# Altium schematic symbol library femtoino.SchLib: 40 symbols
Pins are listed as number, name and electrical type; pins without a type are passive.

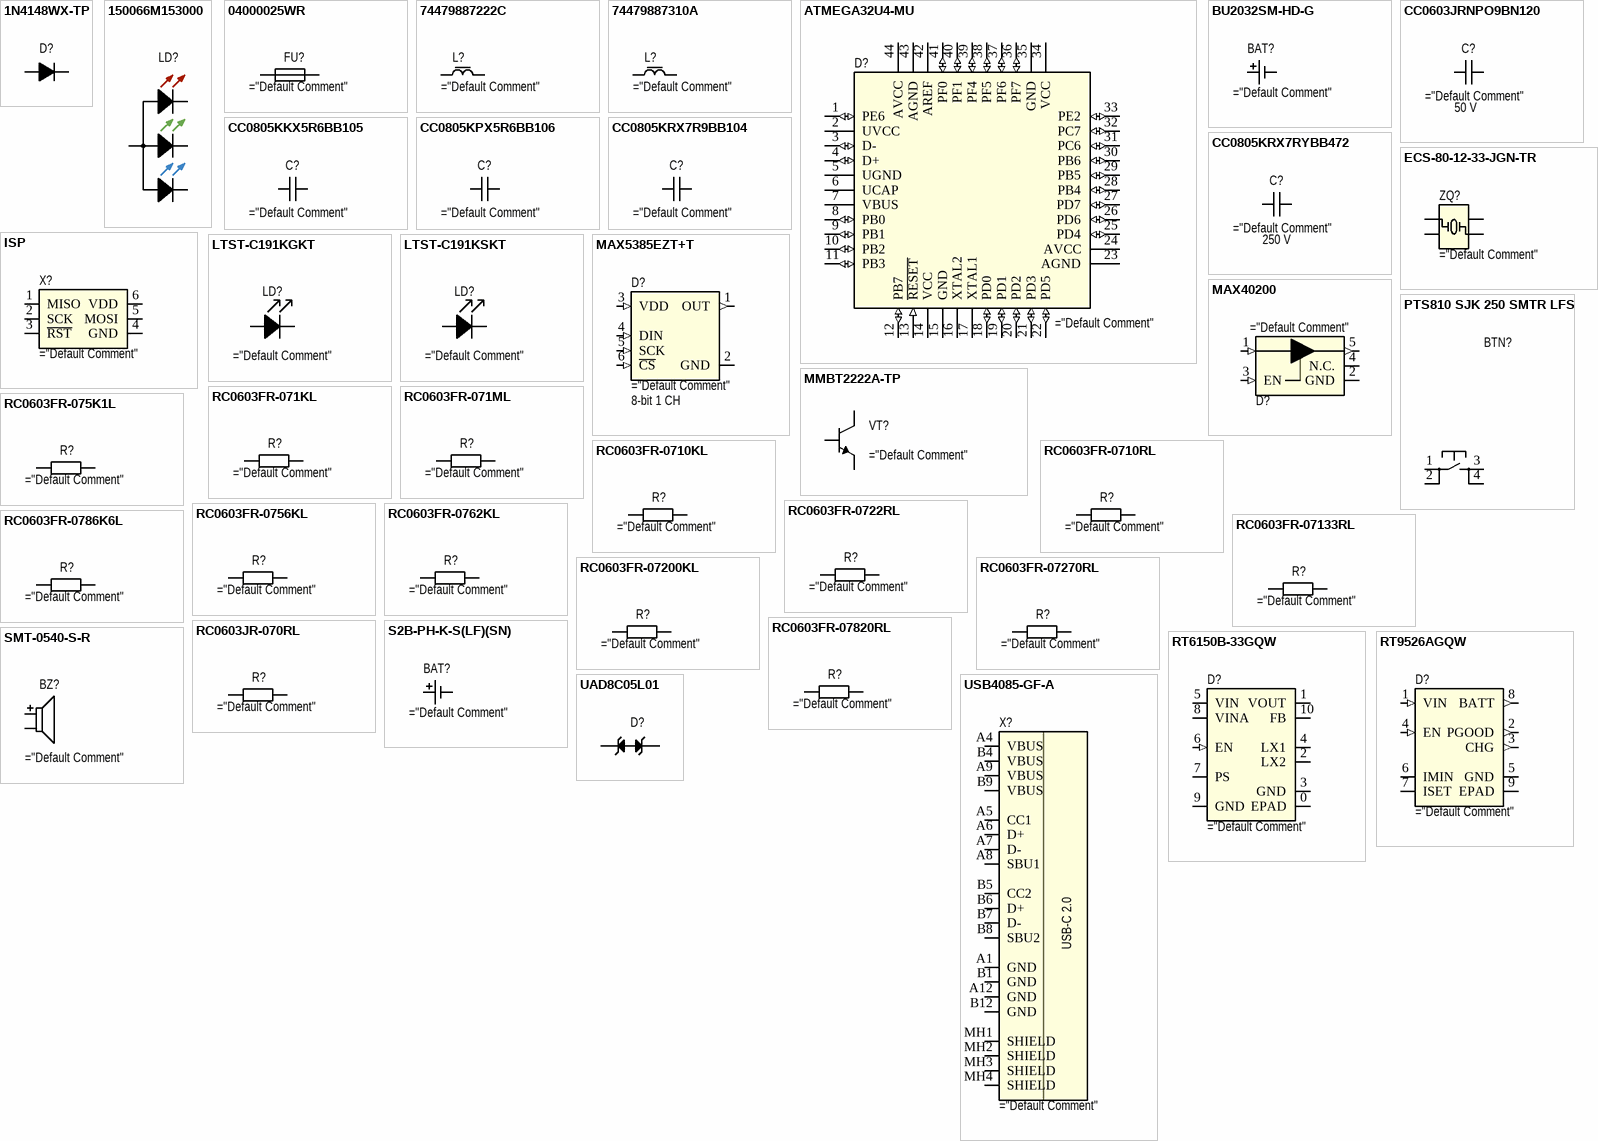
[diagram p0: symbols 1N4148WX-TP to USB4085-GF-A]

## 1N4148WX-TP
designator D?
DIODE GEN PURP 75V 150MA SOD323; Manufacturer: Micro Commercial Co; Default Comment: 1N4148WX-TP; Power Dissipation: * W; Rated Current: 150 A; Tolerance: * %; Other: Diode 75 V 150mA Surface Mount SOD-323; Operating Temperature: -55 °C to +150 °C; Type: diode; HelpURL: https://www.digikey.com/en/products/detail/micro-commercial-co/1N4148WX-TP/717197; Rated Voltage: 75 V; Rated Power: * W; Value: *; Summary: ="Type"+" "+"Part Number"+" "+"Manufacturer"+" "+"Value"+" "+"Tolerance"+" "+"Operating Temperature"+" "+"Case"+" "+"Power Dissipation"+" "+"Rated Current"+" "+"Rated Power"+" "+"Rated Voltage"+" "+"Other"; Assembly: *; Case: SOD-323; Part Number: 1N4148WX-TP
pins: A, C

## 150066M153000
designator LD?
LED RGB DIFFUSED SMD; Manufacturer: Würth Elektronik; Default Comment: 150066M153000; Power Dissipation: * W; Tolerance: * %; Other: Red, Green, Blue (RGB) 624nm Red, 525nm Green, 470nm Blue LED Indication - Discrete 2V Red, 3.3V Green, 3.3V Blue 0606 (1616 Metric); Rated Voltage: 2V Red; 3.3V Green; 3.3V Blue; Rated Current: 20 mA; Value: Red; Green; Blue; Operating Temperature: -40 °C to +85 °C; Type: led; HelpURL: https://www.digikey.com/en/products/detail/w%C3%BCrth-elektronik/150066M153000/7315709; Rated Power: * W; Summary: ="Type"+" "+"Part Number"+" "+"Manufacturer"+" "+"Value"+" "+"Tolerance"+" "+"Operating Temperature"+" "+"Case"+" "+"Power Dissipation"+" "+"Rated Current"+" "+"Rated Power"+" "+"Rated Voltage"+" "+"Other"; Assembly: *; Case: 0606; Part Number: 150066M153000
pins: BC "green cathode", CA "Common anode", GC "green cathode", RC "red cathode"

## 04000025WR
designator FU?
FUSE 500MA 5V FAST 0603 SMD; Manufacturer: Littelfuse Inc.; Part Number: 04000025WR; Power Dissipation: * W; Tolerance: * %; Other: 500 mA AC 5 V DC Fuse Board Mount (Cartridge Style Excluded) Surface Mount 0603 (1608 Metric); Operating Temperature: -55 °C to +150 °C; Type: fuse; HelpURL: https://www.digikey.com/en/products/detail/littelfuse-inc/04000025WR/10271162?s=N4IgjCBcoGwJxVAYygMwIYBsDOBTANCAPZQDaIALAAxwDMdIAuoQA4AuUIAymwE4CWAOwDmIAL6EATFQAcMxCBSQMOAsTIgArFSoACALYBBJqw6QQAVUH82AeVQBZXOmwBXXrnFSwFCgqUqeIQkkOSaugBqJiDsnFY29k4u7p4SIAC0kv5QfK5qIWFMYmlZoSCornhFQA; Default Comment: 500 mA; Rated Voltage: 5 V; Rated Current: 500 mA; Rated Power: * W; Value: *; Summary: ="Type"+" "+"Part Number"+" "+"Manufacturer"+" "+"Value"+" "+"Tolerance"+" "+"Operating Temperature"+" "+"Case"+" "+"Power Dissipation"+" "+"Rated Current"+" "+"Rated Power"+" "+"Rated Voltage"+" "+"Other"; Assembly: *; Case: 0603
pins: 1, 2

## 74479887222C
designator L?
FIXED IND 2.2UH 1.6A 110MOHM SMD; Manufacturer: Würth Elektronik; Part Number: 74479887222C; Type: inductor; Power Dissipation: * W; Rated Voltage: * V; Tolerance: * %; Other: 2.2 µH Shielded Multilayer Inductor 1.6 A 110mOhm 1008 (2520 Metric); Operating Temperature: -40 °C to +125 °C; HelpURL: https://www.digikey.com/en/products/detail/w%C3%BCrth-elektronik/74479887222C/5870496; Default Comment: 2.2 uH; Rated Current: 1.6 A; Rated Power: * W; Value: 2.2 uH; Summary: ="Type"+" "+"Part Number"+" "+"Manufacturer"+" "+"Value"+" "+"Tolerance"+" "+"Operating Temperature"+" "+"Case"+" "+"Power Dissipation"+" "+"Rated Current"+" "+"Rated Power"+" "+"Rated Voltage"+" "+"Other"; Assembly: *; Case: 1008
pins: 1, 2

## 74479887310A
designator L?
FIXED IND 10UH 850MA 300MOHM SMD; Manufacturer: Würth Elektronik; Part Number: 74479887310A; Type: inductor; Power Dissipation: * W; Rated Voltage: * V; Tolerance: * %; Other: 10 µH Shielded Multilayer Inductor 850 mA 300mOhm 1008 (2520 Metric); Operating Temperature: -40 °C to +125 °C; HelpURL: https://www.digikey.com/en/products/detail/w%C3%BCrth-elektronik/74479887310A/4120129; Default Comment: 10 uH; Rated Current: 850 mA; Rated Power: * W; Value: 10 uH; Summary: ="Type"+" "+"Part Number"+" "+"Manufacturer"+" "+"Value"+" "+"Tolerance"+" "+"Operating Temperature"+" "+"Case"+" "+"Power Dissipation"+" "+"Rated Current"+" "+"Rated Power"+" "+"Rated Voltage"+" "+"Other"; Assembly: *; Case: 1008
pins: 1, 2

## ATMEGA32U4-MU
designator D?
IC MCU 8BIT 32KB FLASH 44VQFN; Manufacturer: Microchip Technology; Default Comment: ATMEGA32U4-MU; Power Dissipation: * W; Rated Voltage: 2.7V ~ 5.5 V; Rated Current: * A; Tolerance: * %; Other: AVR AVR® ATmega Microcontroller IC 8-Bit 16MHz 32KB (16K x 16) FLASH 44-VQFN (7x7); Operating Temperature: -40 °C to +85 °C; Type: ic; HelpURL: https://www.digikey.com/en/products/detail/microchip-technology/ATMEGA32U4-MU/1914603; Rated Power: * W; Value: *; Summary: ="Type"+" "+"Part Number"+" "+"Manufacturer"+" "+"Value"+" "+"Tolerance"+" "+"Operating Temperature"+" "+"Case"+" "+"Power Dissipation"+" "+"Rated Current"+" "+"Rated Power"+" "+"Rated Voltage"+" "+"Other"; Assembly: *; Case: 44-VQFN (7x7); Part Number: ATMEGA32U4-MU
pins: 1 PE6 (io), 2 UVCC, 3 D- (io), 4 D+ (io), 5 UGND, 6 UCAP, 7 VBUS, 8 PB0 (io), 9 PB1 (io), 10 PB2 (io), 11 PB3 (io), 12 PB7 (io), 13 ~{RESET} (in), 14 VCC, 15 GND, 16 XTAL2, 17 XTAL1, 18 PD0 (io), 19 PD1 (io), 20 PD2 (io), 21 PD3 (io), 22 PD5 (io), 23 AGND, 24 AVCC, 25 PD4 (io), 26 PD6 (io), 27 PD7 (io), 28 PB4 (io), 29 PB5 (io), 30 PB6 (io), 31 PC6 (io), 32 PC7 (io), 33 PE2 (io), 34 VCC, 35 GND, 36 PF7 (io), 37 PF6 (io), 38 PF5 (io), 39 PF4 (io), 40 PF1 (io), 41 PF0 (io), 42 AREF, 43 AGND, 44 AVCC

## BU2032SM-HD-G
designator BAT?
BATT HOLDER COIN 20MM 1 CELL SMD; Manufacturer: MPD (Memory Protection Devices); Part Number: BU2032SM-HD-G; Default Comment: CR2032; Power Dissipation: * W; Rated Voltage: * V; Rated Current: * A; Tolerance: * %; Other: Battery Holder (Open) Coin, 20.0mm 1 Cell SMD (SMT) Tab; Operating Temperature: -40 °C to +280 °C; Type: connector; HelpURL: https://www.digikey.com/en/products/detail/mpd-memory-protection-devices/BU2032SM-HD-G/755446; Rated Power: * W; Value: *; Summary: ="Type"+" "+"Part Number"+" "+"Manufacturer"+" "+"Value"+" "+"Tolerance"+" "+"Operating Temperature"+" "+"Case"+" "+"Power Dissipation"+" "+"Rated Current"+" "+"Rated Power"+" "+"Rated Voltage"+" "+"Other"; Assembly: *; Case: CR2032
pins: NEG, POS

## CC0603JRNPO9BN120
designator C?  Rated Voltage: 50 V
CAP CER 12PF 50V C0G/NPO 0603; Manufacturer: YAGEO; Part Number: CC0603JRNPO9BN120; Type: capacitor; Power Dissipation: * W; Rated Current: * A; Tolerance: 5 %; Other: 12 pF ±5% 50V Ceramic Capacitor C0G, NP0 0603 (1608 Metric); Operating Temperature: -55 °C to +125 °C; HelpURL: https://www.digikey.com/en/products/detail/yageo/CC0603JRNPO9BN120/302793; Default Comment: 12 pF; Rated Power: * W; Value: 12 pF; Summary: ="Type"+" "+"Part Number"+" "+"Manufacturer"+" "+"Value"+" "+"Tolerance"+" "+"Operating Temperature"+" "+"Case"+" "+"Power Dissipation"+" "+"Rated Current"+" "+"Rated Power"+" "+"Rated Voltage"+" "+"Other"; Assembly: *; Case: 0603
pins: 1, 2

## CC0805KKX5R6BB105
designator C?
CAP CER 1UF 10V X5R 0805; Manufacturer: YAGEO; Part Number: CC0805KKX5R6BB105; Type: capacitor; Power Dissipation: * W; Rated Current: * A; Tolerance: 10 %; Other: 1 µF ±10% 10V Ceramic Capacitor X5R 0805 (2012 Metric); Operating Temperature: -55 °C to +85 °C; HelpURL: https://www.digikey.com/en/products/detail/yageo/CC0805KKX5R6BB105/2345239; Default Comment: 1 uF; Rated Voltage: 10 V; Rated Power: * W; Value: 1 uF; Summary: ="Type"+" "+"Part Number"+" "+"Manufacturer"+" "+"Value"+" "+"Tolerance"+" "+"Operating Temperature"+" "+"Case"+" "+"Power Dissipation"+" "+"Rated Current"+" "+"Rated Power"+" "+"Rated Voltage"+" "+"Other"; Assembly: *; Case: 0805
pins: 1, 2

## CC0805KPX5R6BB106
designator C?
CAP CER 10UF 10V X5R 0805; Manufacturer: YAGEO; Part Number: CC0805KPX5R6BB106; Type: capacitor; Power Dissipation: * W; Rated Current: * A; Tolerance: 10 %; Other: 10 µF ±10% 10V Ceramic Capacitor X5R 0805 (2012 Metric); Operating Temperature: -55 °C to +85 °C; HelpURL: https://www.digikey.com/en/products/detail/yageo/CC0805KPX5R6BB106/11611309; Default Comment: 10 uF; Rated Voltage: 10 V; Rated Power: * W; Value: 10 uF; Summary: ="Type"+" "+"Part Number"+" "+"Manufacturer"+" "+"Value"+" "+"Tolerance"+" "+"Operating Temperature"+" "+"Case"+" "+"Power Dissipation"+" "+"Rated Current"+" "+"Rated Power"+" "+"Rated Voltage"+" "+"Other"; Assembly: *; Case: 0805
pins: 1, 2

## CC0805KRX7R9BB104
designator C?
CAP CER 0.1UF 50V X7R 0805; Manufacturer: YAGEO; Part Number: CC0805KRX7R9BB104; Type: capacitor; Power Dissipation: * W; Rated Current: * A; Tolerance: 10 %; Other: 0.1 µF ±10% 50V Ceramic Capacitor X7R 0805 (2012 Metric); Operating Temperature: -55 °C to +125 °C; HelpURL: https://www.digikey.com/en/products/detail/yageo/CC0805KRX7R9BB104/302874; Default Comment: 0.1 uF; Rated Voltage: 50 V; Rated Power: * W; Value: 0.1 uF; Summary: ="Type"+" "+"Part Number"+" "+"Manufacturer"+" "+"Value"+" "+"Tolerance"+" "+"Operating Temperature"+" "+"Case"+" "+"Power Dissipation"+" "+"Rated Current"+" "+"Rated Power"+" "+"Rated Voltage"+" "+"Other"; Assembly: *; Case: 0805
pins: 1, 2

## CC0805KRX7RYBB472
designator C?  Rated Voltage: 250 V
CAP CER 4700PF 250V X7R 0805; Manufacturer: YAGEO; Part Number: CC0805KRX7RYBB472; Type: capacitor; Power Dissipation: * W; Rated Current: * A; Tolerance: 10 %; Other: 4700 pF ±10% 250V Ceramic Capacitor X7R 0805 (2012 Metric); Operating Temperature: -55 °C to +125 °C; HelpURL: https://www.digikey.com/en/products/detail/yageo/CC0805KRX7RYBB472/5884263; Default Comment: 4700 pF; Rated Power: * W; Value: 4700 pF; Summary: ="Type"+" "+"Part Number"+" "+"Manufacturer"+" "+"Value"+" "+"Tolerance"+" "+"Operating Temperature"+" "+"Case"+" "+"Power Dissipation"+" "+"Rated Current"+" "+"Rated Power"+" "+"Rated Voltage"+" "+"Other"; Assembly: *; Case: 0805
pins: 1, 2

## ECS-80-12-33-JGN-TR
designator ZQ?
CRYSTAL 8.0000MHZ 12PF SMD; Manufacturer: ECS Inc.; Part Number: ECS-80-12-33-JGN-TR; Power Dissipation: * W; Rated Voltage: * V; Rated Current: * A; Tolerance: 20 ppm; Other: 8 MHz ±20ppm Crystal 12pF 400 Ohms 4-SMD, No Lead; Operating Temperature: -40 °C to +85 °C; Type: crystall; HelpURL: https://www.digikey.com/en/products/detail/ecs-inc/ECS-80-12-33-JGN-TR/10478754; Default Comment: 8.0000 MHz; Rated Power: * W; Value: 8.0000 MHz; Summary: ="Type"+" "+"Part Number"+" "+"Manufacturer"+" "+"Value"+" "+"Tolerance"+" "+"Operating Temperature"+" "+"Case"+" "+"Power Dissipation"+" "+"Rated Current"+" "+"Rated Power"+" "+"Rated Voltage"+" "+"Other"; Assembly: *; Case: 3.20mm x 2.50mm
pins: 1, 2, 3, 4

## ISP
designator X?  (no BOM)
In system programming interface.; Default Comment: ISP; Power Dissipation: * W; Rated Voltage: * V; Rated Current: * A; Tolerance: * %; Value: ISP; Operating Temperature: *; Type: connector; HelpURL: *; Rated Power: * W; Other: *; Summary: ="Type"+" "+"Part Number"+" "+"Manufacturer"+" "+"Value"+" "+"Tolerance"+" "+"Operating Temperature"+" "+"Case"+" "+"Power Dissipation"+" "+"Rated Current"+" "+"Rated Power"+" "+"Rated Voltage"+" "+"Other"; Assembly: *; Case: *; Manufacturer: *; Part Number: *
pins: 1 MISO, 2 SCK, 3 ~{RST}, 4 GND, 5 MOSI, 6 VDD

## LTST-C191KGKT
designator LD?
LED GREEN CLEAR SMD; Manufacturer: Lite-On Inc.; Part Number: LTST-C191KGKT; Power Dissipation: * W; Tolerance: * %; Other: Green 571nm LED Indication - Discrete 2V 0603 (1608 Metric); Rated Voltage: 2 V; Rated Current: 20 mA; Operating Temperature: -55 °C to +85 °C; Type: led; HelpURL: https://www.digikey.com/en/products/detail/liteon/LTST-C191KGKT/386835; Default Comment: green; Rated Power: * W; Summary: ="Type"+" "+"Part Number"+" "+"Manufacturer"+" "+"Value"+" "+"Tolerance"+" "+"Operating Temperature"+" "+"Case"+" "+"Power Dissipation"+" "+"Rated Current"+" "+"Rated Power"+" "+"Rated Voltage"+" "+"Other"; Assembly: *; Case: 0603; Value: green
pins: A "anode (-)", C "cathode (+)"

## LTST-C191KSKT
designator LD?
LED YELLOW CLEAR SMD; Manufacturer: Lite-On Inc.; Part Number: LTST-C191KSKT; Power Dissipation: * W; Tolerance: * %; Other: Yellow 591nm LED Indication - Discrete 2.1V 0603 (1608 Metric); Rated Voltage: 2.1 V; Rated Current: 20 mA; Operating Temperature: -55 °C to +85 °C; Type: led; HelpURL: https://www.digikey.com/en/products/detail/liteon/LTST-C191KSKT/386839; Default Comment: yellow; Rated Power: * W; Summary: ="Type"+" "+"Part Number"+" "+"Manufacturer"+" "+"Value"+" "+"Tolerance"+" "+"Operating Temperature"+" "+"Case"+" "+"Power Dissipation"+" "+"Rated Current"+" "+"Rated Power"+" "+"Rated Voltage"+" "+"Other"; Assembly: *; Case: 0603; Value: yellow
pins: A "anode (-)", C "cathode (+)"

## MAX5385EZT+T
designator D?  value 8-bit 1 CH  (no BOM)
IC DAC 8BIT V-OUT TSOT23-6; Manufacturer: Analog Devices Inc./Maxim Integrated; Default Comment: MAX5385EZT+T; Power Dissipation: * W; Rated Voltage: 2.7 V ~ 5.5 V; Rated Current: * A; Tolerance: * %; Other: 8 Bit Digital to Analog Converter 1 TSOT-23-6; Operating Temperature: -40 °C to +125 °C; Type: ic; HelpURL: https://www.digikey.com/en/products/detail/analog-devices-inc-maxim-integrated/MAX5385EZT-T/1781900; Rated Power: * W; Summary: ="Type"+" "+"Part Number"+" "+"Manufacturer"+" "+"Value"+" "+"Tolerance"+" "+"Operating Temperature"+" "+"Case"+" "+"Power Dissipation"+" "+"Rated Current"+" "+"Rated Power"+" "+"Rated Voltage"+" "+"Other"; Assembly: *; Case: SOT-23-6; Part Number: MAX5385EZT+T
pins: 1 OUT (out), 2 GND, 3 VDD (in), 4 DIN (in), 5 SCK (in), 6 ~{CS} (in)

## MAX40200
designator D?
IC IDEAL DIODE; Manufacturer: Analog Devices Inc./Maxim Integrated; Default Comment: MAX40203AUK+T; Power Dissipation: * W; Rated Voltage: 1.2 V ~ 5.5 V; Rated Current: 1 A; Tolerance: * %; Other: OR Controller Source Selector Switch P-Channel 1:1 SOT-23-5; Operating Temperature: -40 °C to +125 °C; Type: diode; HelpURL: https://www.digikey.com/en/products/detail/analog-devices-inc-maxim-integrated/MAX40203AUK-T/10447227; Rated Power: * W; Value: *; Summary: ="Type"+" "+"Part Number"+" "+"Manufacturer"+" "+"Value"+" "+"Tolerance"+" "+"Operating Temperature"+" "+"Case"+" "+"Power Dissipation"+" "+"Rated Current"+" "+"Rated Power"+" "+"Rated Voltage"+" "+"Other"; Assembly: *; Case: SOT-23-5; Part Number: MAX40203AUK+T
pins: 1 VDD (in), 2 GND, 3 EN (in), 4 N.C., 5 OUT (out)

## MMBT2222A-TP
designator VT?
TRANS NPN 40V 0.6A SOT23; Manufacturer: Micro Commercial Co; Type: transistor; Default Comment: MMBT2222A-TP; Power Dissipation: 350 mW; Rated Voltage: * V; Rated Current: 600 mA; Tolerance: * %; Other: Bipolar (BJT) Transistor NPN 40 V 600 mA 300MHz 350 mW Surface Mount SOT-23; Operating Temperature: -55 °C to +150 °C; HelpURL: https://www.digikey.com/en/products/detail/micro-commercial-co/MMBT2222A-TP/717279; Rated Power: 350 mW; Value: npn; Summary: ="Type"+" "+"Part Number"+" "+"Manufacturer"+" "+"Value"+" "+"Tolerance"+" "+"Operating Temperature"+" "+"Case"+" "+"Power Dissipation"+" "+"Rated Current"+" "+"Rated Power"+" "+"Rated Voltage"+" "+"Other"; Assembly: *; Case: SOT-23; Part Number: MMBT2222A-TP
pins: B "base", C "collector", E "emmiter"

## PTS810 SJK 250 SMTR LFS
designator BTN?
SWITCH TACTILE SPST-NO 0.05A 16V; Manufacturer: C&K; Default Comment: PTS810 SJK 250 SMTR LFS; Power Dissipation: * W; Rated Voltage: * V; Rated Current: * A; Tolerance: * %; Other: Tactile Switch SPST-NO Top Actuated Surface Mount; Operating Temperature: -40 °C to +85 °C; Type: button; HelpURL: https://www.digikey.com/en/products/detail/c-k/PTS810-SJK-250-SMTR-LFS/4176611; Rated Power: * W; Value: *; Summary: ="Type"+" "+"Part Number"+" "+"Manufacturer"+" "+"Value"+" "+"Tolerance"+" "+"Operating Temperature"+" "+"Case"+" "+"Power Dissipation"+" "+"Rated Current"+" "+"Rated Power"+" "+"Rated Voltage"+" "+"Other"; Assembly: *; Case: 4.20mm x 3.20mm; Part Number: PTS810 SJK 250 SMTR LFS
pins: 1, 2, 3, 4

## RC0603FR-071KL
designator R?
RES 1K OHM 1% 1/10W 0603; Manufacturer: YAGEO; Part Number: RC0603FR-071KL; Rated Voltage: * V; Rated Current: * A; Other: 1 kOhms ±1% 0.1W, 1/10W Chip Resistor 0603 (1608 Metric) Moisture Resistant Thick Film; Operating Temperature: -55 °C to +155 °C; Type: resistor; HelpURL: https://www.digikey.com/en/products/detail/yageo/RC0603FR-071KL/726843; Default Comment: 1k; Power Dissipation: 1/10 W; Rated Power: 1/10 W; Tolerance: 1 %; Value: 1k; Summary: ="Type"+" "+"Part Number"+" "+"Manufacturer"+" "+"Value"+" "+"Tolerance"+" "+"Operating Temperature"+" "+"Case"+" "+"Power Dissipation"+" "+"Rated Current"+" "+"Rated Power"+" "+"Rated Voltage"+" "+"Other"; Assembly: *; Case: 0603
pins: 1, 2

## RC0603FR-071ML
designator R?
RES 1M OHM 1% 1/10W 0603; Manufacturer: YAGEO; Part Number: RC0603FR-071ML; Power Dissipation: 0.1 W; Rated Voltage: * V; Rated Current: * A; Other: 1 MOhms ±1% 0.1W, 1/10W Chip Resistor 0603 (1608 Metric) Moisture Resistant Thick Film; Operating Temperature: -55 °C to +155 °C; Type: resistor; HelpURL: https://www.digikey.com/en/products/detail/yageo/RC0603FR-071ML/726844; Default Comment: 1M; Rated Power: 0.1 W; Tolerance: 1 %; Value: 1M; Summary: ="Type"+" "+"Part Number"+" "+"Manufacturer"+" "+"Value"+" "+"Tolerance"+" "+"Operating Temperature"+" "+"Case"+" "+"Power Dissipation"+" "+"Rated Current"+" "+"Rated Power"+" "+"Rated Voltage"+" "+"Other"; Assembly: *; Case: 0603
pins: 1, 2

## RC0603FR-075K1L
designator R?
RES 5.1K OHM 1% 1/10W 0603; Manufacturer: YAGEO; Part Number: RC0603FR-075K1L; Default Comment: 5k1; Rated Voltage: * V; Rated Current: * A; Value: 5k1; Other: 5.1 kOhms ±1% 0.1W, 1/10W Chip Resistor 0603 (1608 Metric) Moisture Resistant Thick Film; Operating Temperature: -55 °C to +155 °C; Type: resistor; HelpURL: https://www.digikey.com/en/products/detail/yageo/RC0603FR-075K1L/727268; Power Dissipation: 1/10 W; Rated Power: 1/10 W; Tolerance: 1 %; Summary: ="Type"+" "+"Part Number"+" "+"Manufacturer"+" "+"Value"+" "+"Tolerance"+" "+"Operating Temperature"+" "+"Case"+" "+"Power Dissipation"+" "+"Rated Current"+" "+"Rated Power"+" "+"Rated Voltage"+" "+"Other"; Assembly: *; Case: 0603
pins: 1, 2

## RC0603FR-0710KL
designator R?
RES 10K OHM 1% 1/10W 0603; Manufacturer: YAGEO; Part Number: RC0603FR-0710KL; Power Dissipation: 0.1 W; Rated Voltage: * V; Rated Current: * A; Other: 10 kOhms ±1% 0.1W, 1/10W Chip Resistor 0603 (1608 Metric) Moisture Resistant Thick Film; Operating Temperature: -55 °C to +155 °C; Type: resistor; HelpURL: https://www.digikey.com/en/products/detail/yageo/RC0603FR-0710KL/726880; Default Comment: 10k; Rated Power: 0.1 W; Tolerance: 1 %; Value: 10k; Summary: ="Type"+" "+"Part Number"+" "+"Manufacturer"+" "+"Value"+" "+"Tolerance"+" "+"Operating Temperature"+" "+"Case"+" "+"Power Dissipation"+" "+"Rated Current"+" "+"Rated Power"+" "+"Rated Voltage"+" "+"Other"; Assembly: *; Case: 0603
pins: 1, 2

## RC0603FR-0710RL
designator R?
RES 10 OHM 1% 1/10W 0603; Manufacturer: YAGEO; Part Number: RC0603FR-0710RL; Default Comment: 10R; Power Dissipation: 0.1 W; Rated Voltage: * V; Rated Current: * A; Value: 10R; Other: 10 Ohms ±1% 0.1W, 1/10W Chip Resistor 0603 (1608 Metric) Moisture Resistant Thick Film; Operating Temperature: -55 °C to +155 °C; Type: resistor; HelpURL: https://www.digikey.com/en/products/detail/yageo/RC0603FR-0710RL/726879; Rated Power: 0.1 W; Tolerance: 1 %; Summary: ="Type"+" "+"Part Number"+" "+"Manufacturer"+" "+"Value"+" "+"Tolerance"+" "+"Operating Temperature"+" "+"Case"+" "+"Power Dissipation"+" "+"Rated Current"+" "+"Rated Power"+" "+"Rated Voltage"+" "+"Other"; Assembly: *; Case: 0603
pins: 1, 2

## RC0603FR-0722RL
designator R?
RES 22 OHM 1% 1/10W 0603; Manufacturer: YAGEO; Part Number: RC0603FR-0722RL; Default Comment: 22R; Rated Voltage: * V; Rated Current: * A; Value: 22R; Other: 22 Ohms ±1% 0.1W, 1/10W Chip Resistor 0603 (1608 Metric) Moisture Resistant Thick Film; Operating Temperature: -55 °C to +155 °C; Type: resistor; HelpURL: https://www.digikey.com/en/products/detail/yageo/RC0603FR-0722RL/727055; Power Dissipation: 1/10 W; Rated Power: 1/10 W; Tolerance: 1 %; Summary: ="Type"+" "+"Part Number"+" "+"Manufacturer"+" "+"Value"+" "+"Tolerance"+" "+"Operating Temperature"+" "+"Case"+" "+"Power Dissipation"+" "+"Rated Current"+" "+"Rated Power"+" "+"Rated Voltage"+" "+"Other"; Assembly: *; Case: 0603
pins: 1, 2

## RC0603FR-0756KL
designator R?
RES 56K OHM 1% 1/10W 0603; Manufacturer: YAGEO; Part Number: RC0603FR-0756KL; Rated Voltage: * V; Rated Current: * A; Other: 56 kOhms ±1% 0.1W, 1/10W Chip Resistor 0603 (1608 Metric) Moisture Resistant Thick Film; Operating Temperature: -55 °C to +155 °C; Type: resistor; HelpURL: https://www.digikey.com/en/products/detail/yageo/RC0603FR-0756KL/2827626; Default Comment: 56k; Power Dissipation: 1/10 W; Rated Power: 1/10 W; Tolerance: 1 %; Value: 56k; Summary: ="Type"+" "+"Part Number"+" "+"Manufacturer"+" "+"Value"+" "+"Tolerance"+" "+"Operating Temperature"+" "+"Case"+" "+"Power Dissipation"+" "+"Rated Current"+" "+"Rated Power"+" "+"Rated Voltage"+" "+"Other"; Assembly: *; Case: 0603
pins: 1, 2

## RC0603FR-0762KL
designator R?
RES 62K OHM 1% 1/10W 0603; Manufacturer: YAGEO; Part Number: RC0603FR-0762KL; Power Dissipation: 0.1 W; Rated Voltage: * V; Rated Current: * A; Other: 62 kOhms ±1% 0.1W, 1/10W Chip Resistor 0603 (1608 Metric) Moisture Resistant Thick Film; Operating Temperature: -55 °C to +155 °C; Type: resistor; HelpURL: https://www.digikey.com/en/products/detail/yageo/RC0603FR-0762KL/727336; Default Comment: 62k; Rated Power: 0.1 W; Tolerance: 1 %; Value: 62k; Summary: ="Type"+" "+"Part Number"+" "+"Manufacturer"+" "+"Value"+" "+"Tolerance"+" "+"Operating Temperature"+" "+"Case"+" "+"Power Dissipation"+" "+"Rated Current"+" "+"Rated Power"+" "+"Rated Voltage"+" "+"Other"; Assembly: *; Case: 0603
pins: 1, 2

## RC0603FR-0786K6L
designator R?
RES 86.6K OHM 1% 1/10W 0603; Manufacturer: YAGEO; Part Number: RC0603FR-0786K6L; Default Comment: 86k6; Rated Voltage: * V; Rated Current: * A; Value: 86k6; Other: 86.6 kOhms ±1% 0.1W, 1/10W Chip Resistor 0603 (1608 Metric) Moisture Resistant Thick Film; Operating Temperature: -55 °C to +155 °C; Type: resistor; HelpURL: https://www.digikey.com/en/products/detail/yageo/RC0603FR-0786K6L/727411?s=N4IgjCBcoMxaBjKAzAhgGwM4FMA0IB7KAbXDBggF18AHAFyhAGU6AnASwDsBzEAX3xgAbPBBJIaLHkIkQMAJwAmACwjqIeoxYce-fIoAMADgCso8ZJz4ikUkaEA6IQAIA1gHkAFgFtMIdZqQIACqnOx07sgAstiomACurNh6IAC0ENBiKBhWMrbgcJQCaYrmUGzx0jakZkXFIpnsACaM6QaltAxBIPh0AJ40yUFNmEh8fEA; Power Dissipation: 1/10 W; Rated Power: 1/10 W; Tolerance: 1 %; Summary: ="Type"+" "+"Part Number"+" "+"Manufacturer"+" "+"Value"+" "+"Tolerance"+" "+"Operating Temperature"+" "+"Case"+" "+"Power Dissipation"+" "+"Rated Current"+" "+"Rated Power"+" "+"Rated Voltage"+" "+"Other"; Assembly: *; Case: 0603
pins: 1, 2

## RC0603FR-07133RL
designator R?
RES 133 OHM 1% 1/10W 0603; Manufacturer: YAGEO; Part Number: RC0603FR-07133RL; Default Comment: 133R; Power Dissipation: 0.1 W; Rated Voltage: * V; Rated Current: * A; Value: 133R; Other: 133 Ohms ±1% 0.1W, 1/10W Chip Resistor 0603 (1608 Metric) Moisture Resistant Thick Film; Operating Temperature: -55 °C to +155 °C; Type: resistor; HelpURL: https://www.digikey.com/en/products/detail/yageo/RC0603FR-07133RL/726936; Rated Power: 0.1 W; Tolerance: 1 %; Summary: ="Type"+" "+"Part Number"+" "+"Manufacturer"+" "+"Value"+" "+"Tolerance"+" "+"Operating Temperature"+" "+"Case"+" "+"Power Dissipation"+" "+"Rated Current"+" "+"Rated Power"+" "+"Rated Voltage"+" "+"Other"; Assembly: *; Case: 0603
pins: 1, 2

## RC0603FR-07200KL
designator R?
RES 200K OHM 1% 1/10W 0603; Manufacturer: YAGEO; Part Number: RC0603FR-07200KL; Power Dissipation: 0.1 W; Rated Voltage: * V; Rated Current: * A; Other: 200 kOhms ±1% 0.1W, 1/10W Chip Resistor 0603 (1608 Metric) Moisture Resistant Thick Film; Operating Temperature: -55 °C to +155 °C; Type: resistor; HelpURL: https://www.digikey.com/en/products/detail/yageo/RC0603FR-07200KL/727044; Default Comment: 200k; Rated Power: 0.1 W; Tolerance: 1 %; Value: 200k; Summary: ="Type"+" "+"Part Number"+" "+"Manufacturer"+" "+"Value"+" "+"Tolerance"+" "+"Operating Temperature"+" "+"Case"+" "+"Power Dissipation"+" "+"Rated Current"+" "+"Rated Power"+" "+"Rated Voltage"+" "+"Other"; Assembly: *; Case: 0603
pins: 1, 2

## RC0603FR-07270RL
designator R?
RES 270 OHM 1% 1/10W 0603; Manufacturer: YAGEO; Part Number: RC0603FR-07270RL; Default Comment: 270R; Power Dissipation: 0.1 W; Rated Voltage: * V; Rated Current: * A; Value: 270R; Other: 270 Ohms ±1% 0.1W, 1/10W Chip Resistor 0603 (1608 Metric) Moisture Resistant Thick Film; Operating Temperature: -55 °C to +155 °C; Type: resistor; HelpURL: https://www.digikey.com/en/products/detail/yageo/RC0603FR-07270RL/727103; Rated Power: 0.1 W; Tolerance: 1 %; Summary: ="Type"+" "+"Part Number"+" "+"Manufacturer"+" "+"Value"+" "+"Tolerance"+" "+"Operating Temperature"+" "+"Case"+" "+"Power Dissipation"+" "+"Rated Current"+" "+"Rated Power"+" "+"Rated Voltage"+" "+"Other"; Assembly: *; Case: 0603
pins: 1, 2

## RC0603FR-07820RL
designator R?
RES 820 OHM 1% 1/10W 0603; Manufacturer: YAGEO; Part Number: RC0603FR-07820RL; Default Comment: 820R; Rated Voltage: * V; Rated Current: * A; Value: 820R; Other: 820 Ohms ±1% 0.1W, 1/10W Chip Resistor 0603 (1608 Metric) Moisture Resistant Thick Film; Operating Temperature: -55 °C to +155 °C; Type: resistor; HelpURL: https://www.digikey.com/en/products/detail/yageo/RC0603FR-07820RL/727403; Power Dissipation: 1/10 W; Rated Power: 1/10 W; Tolerance: 1 %; Summary: ="Type"+" "+"Part Number"+" "+"Manufacturer"+" "+"Value"+" "+"Tolerance"+" "+"Operating Temperature"+" "+"Case"+" "+"Power Dissipation"+" "+"Rated Current"+" "+"Rated Power"+" "+"Rated Voltage"+" "+"Other"; Assembly: *; Case: 0603
pins: 1, 2

## RC0603JR-070RL
designator R?
RES 0 OHM JUMPER 1/10W 0603; Manufacturer: YAGEO; Part Number: RC0603JR-070RL; Default Comment: 0R; Power Dissipation: * W; Rated Voltage: * V; Rated Current: * A; Tolerance: * %; Value: 0R; Other: 0 Ohms Jumper Chip Resistor 0603 (1608 Metric) Moisture Resistant Thick Film; Operating Temperature: -55 °C to +155 °C; Type: resistor; HelpURL: https://www.digikey.com/en/products/detail/yageo/RC0603JR-070RL/726675; Rated Power: * W; Summary: ="Type"+" "+"Part Number"+" "+"Manufacturer"+" "+"Value"+" "+"Tolerance"+" "+"Operating Temperature"+" "+"Case"+" "+"Power Dissipation"+" "+"Rated Current"+" "+"Rated Power"+" "+"Rated Voltage"+" "+"Other"; Assembly: *; Case: 0603
pins: 1, 2

## RT6150B-33GQW
designator D?
IC REG BCK BST 3.3V 800MA 10WDFN; Manufacturer: Richtek USA Inc.; Default Comment: RT6150B-33GQW; Power Dissipation: * W; Tolerance: * %; Other: Buck-Boost Switching Regulator IC Positive Fixed 3.3V 1 Output 800mA 10-WFDFN Exposed Pad; Operating Temperature: -40 °C to +85 °C; Type: ic; HelpURL: https://www.digikey.com/en/products/detail/richtek-usa-inc/RT6150B-33GQW/6676709; Rated Voltage: 3.3 V; Rated Current: 800 mA; Rated Power: * W; Value: *; Summary: ="Type"+" "+"Part Number"+" "+"Manufacturer"+" "+"Value"+" "+"Tolerance"+" "+"Operating Temperature"+" "+"Case"+" "+"Power Dissipation"+" "+"Rated Current"+" "+"Rated Power"+" "+"Rated Voltage"+" "+"Other"; Assembly: *; Case: 10-WDFN (2.5x2.5); Part Number: RT6150B-33GQW
pins: 0 EPAD, 1 VOUT, 2 LX2, 3 GND, 4 LX1, 5 VIN, 6 EN (in), 7 PS, 8 VINA, 9 GND, 10 FB

## RT9526AGQW
designator D?
IC LI-ION BATT CHGR WDFN-8; Manufacturer: Richtek USA Inc.; Default Comment: RT9526AGQW; Power Dissipation: * W; Rated Voltage: 28 V; Rated Current: * A; Tolerance: * %; Other: Charger IC Lithium Ion 8-WDFN (2x3); Operating Temperature: -40 °C to +85 °C; Type: ic; HelpURL: https://www.digikey.com/en/products/detail/richtek-usa-inc/RT9526AGQW/16376728; Rated Power: * W; Value: *; Summary: ="Type"+" "+"Part Number"+" "+"Manufacturer"+" "+"Value"+" "+"Tolerance"+" "+"Operating Temperature"+" "+"Case"+" "+"Power Dissipation"+" "+"Rated Current"+" "+"Rated Power"+" "+"Rated Voltage"+" "+"Other"; Assembly: *; Case: 8-WDFN (2x3); Part Number: RT9526AGQW
pins: 1 VIN (in), 2 PGOOD (out), 3 CHG (out), 4 EN (in), 5 GND, 6 IMIN, 7 ISET, 8 BATT (out), 9 EPAD

## S2B-PH-K-S(LF)(SN)
designator BAT?
CONN HEADER R/A 2POS 2MM; Manufacturer: JST Sales America Inc.; Part Number: S2B-PH-K-S(LF)(SN); Default Comment: JST-PH-2; Power Dissipation: * W; Rated Voltage: * V; Rated Current: * A; Tolerance: * %; Other: Connector Header Through Hole, Right Angle 2 position 0.079" (2.00mm); Operating Temperature: -25 °C to +85 °C; Type: connector; HelpURL: https://www.digikey.com/en/products/detail/jst-sales-america-inc/S2B-PH-K-S-LF-SN/926626; Rated Power: * W; Value: *; Summary: ="Type"+" "+"Part Number"+" "+"Manufacturer"+" "+"Value"+" "+"Tolerance"+" "+"Operating Temperature"+" "+"Case"+" "+"Power Dissipation"+" "+"Rated Current"+" "+"Rated Power"+" "+"Rated Voltage"+" "+"Other"; Assembly: *; Case: JST-PH-2
pins: NEG, POS

## SMT-0540-S-R
designator BZ?
BUZZER MAGNETIC 3V 5X5MM SMD; Manufacturer: PUI Audio, Inc.; Default Comment: SMT-0540-S-R; Power Dissipation: * W; Rated Current: 100 mA; Tolerance: * %; Other: Buzzers Transducer, Externally Driven Electromechanical/Magnetic 3 V 100mA 4kHz 78dB @ 3V, 10cm Surface Mount Solder Pads; Operating Temperature: -30 °C to +70 °C; Type: buzzer; HelpURL: https://www.digikey.com/en/products/detail/pui-audio-inc/SMT-0540-S-R/1464799; Rated Voltage: 3 V; Rated Power: * W; Value: *; Summary: ="Type"+" "+"Part Number"+" "+"Manufacturer"+" "+"Value"+" "+"Tolerance"+" "+"Operating Temperature"+" "+"Case"+" "+"Power Dissipation"+" "+"Rated Current"+" "+"Rated Power"+" "+"Rated Voltage"+" "+"Other"; Assembly: *; Case: 5.0mm x 5.0mm; Part Number: SMT-0540-S-R
pins: NEG, POS

## UAD8C05L01
designator D?
TVS DIODE 5VWM 20VC SOD882; Manufacturer: YAGEO; Default Comment: UAD8C05L01; Power Dissipation: * W; Rated Voltage: 20 V; Rated Current: * A; Tolerance: * %; Other: 20V (Typ) Clamp 3A (8/20µs) Ipp Tvs Diode Surface Mount SOD-882; Operating Temperature: -50 °C to +150 °C; Type: diode; HelpURL: https://www.digikey.com/en/products/detail/yageo/UAD8C05L01/13689529; Rated Power: * W; Value: *; Summary: ="Type"+" "+"Part Number"+" "+"Manufacturer"+" "+"Value"+" "+"Tolerance"+" "+"Operating Temperature"+" "+"Case"+" "+"Power Dissipation"+" "+"Rated Current"+" "+"Rated Power"+" "+"Rated Voltage"+" "+"Other"; Assembly: *; Case: SOD-882; Part Number: UAD8C05L01
pins: 1, 2

## USB4085-GF-A
designator X?
CONN RCPT USB2.0 TYPE C 16+8POS; Manufacturer: GCT; Default Comment: USB4085-GF-A; Power Dissipation: * W; Rated Voltage: * V; Rated Current: * A; Tolerance: * %; Other: USB-C (USB TYPE-C) USB 2.0 Receptacle Connector 24 (16+8 Dummy) Position Through Hole, Right Angle; Operating Temperature: -40 °C to +85 °C; Type: connector; HelpURL: https://www.digikey.com/en/products/detail/gct/USB4085-GF-A/9859662; Rated Power: * W; Value: *; Summary: ="Type"+" "+"Part Number"+" "+"Manufacturer"+" "+"Value"+" "+"Tolerance"+" "+"Operating Temperature"+" "+"Case"+" "+"Power Dissipation"+" "+"Rated Current"+" "+"Rated Power"+" "+"Rated Voltage"+" "+"Other"; Assembly: *; Case: USB-C (USB TYPE-C) Through Hole, Right Angle; Part Number: USB4085-GF-A
pins: A1 GND, A4 VBUS, A5 CC1, A6 D+, A7 D-, A8 SBU1, A9 VBUS, A12 GND, B1 GND, B4 VBUS, B5 CC2, B6 D+, B7 D-, B8 SBU2, B9 VBUS, B12 GND, MH1 SHIELD, MH2 SHIELD, MH3 SHIELD, MH4 SHIELD
text: USB-C 2.0